# EAGLE library part MIC4422AYM (library TimeExpander)
MOSFET Driver
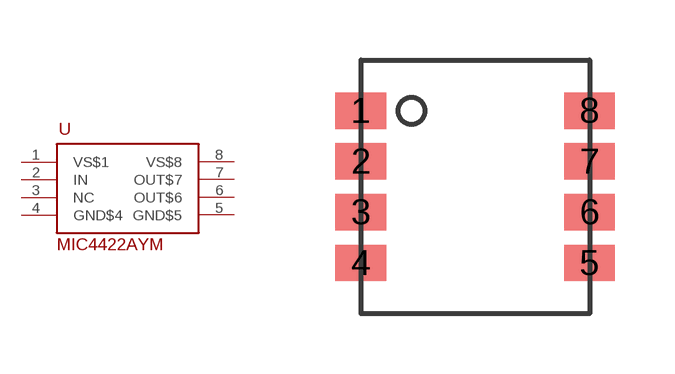
[diagram p16: symbol with the pads of SOIC-8; footprint SOIC-8]

Designator prefix -

## MIC4422AYM (DIGIKEY: 576-2318-ND; URL: http://www.digikey.com/product-detail/en/microchip-technology/MIC4422AYM/576-2318-ND/1029851)  [SOIC-8]
1  VS$1
2  IN
3  NC
4  GND$4
5  GND$5
6  OUT$6
7  OUT$7
8  VS$8

## Footprint SOIC-8 (pad centres in mm)
smd 1.27 x 0.91: 1 0,3.81; 2 0,2.54; 3 0,1.27; 4 0,0; 5 5.715,0; 6 5.715,1.27; 7 5.715,2.54; 8 5.715,3.81